# Altium integrated library Transistor.IntLib: 3457 symbols (part 9 of 78)
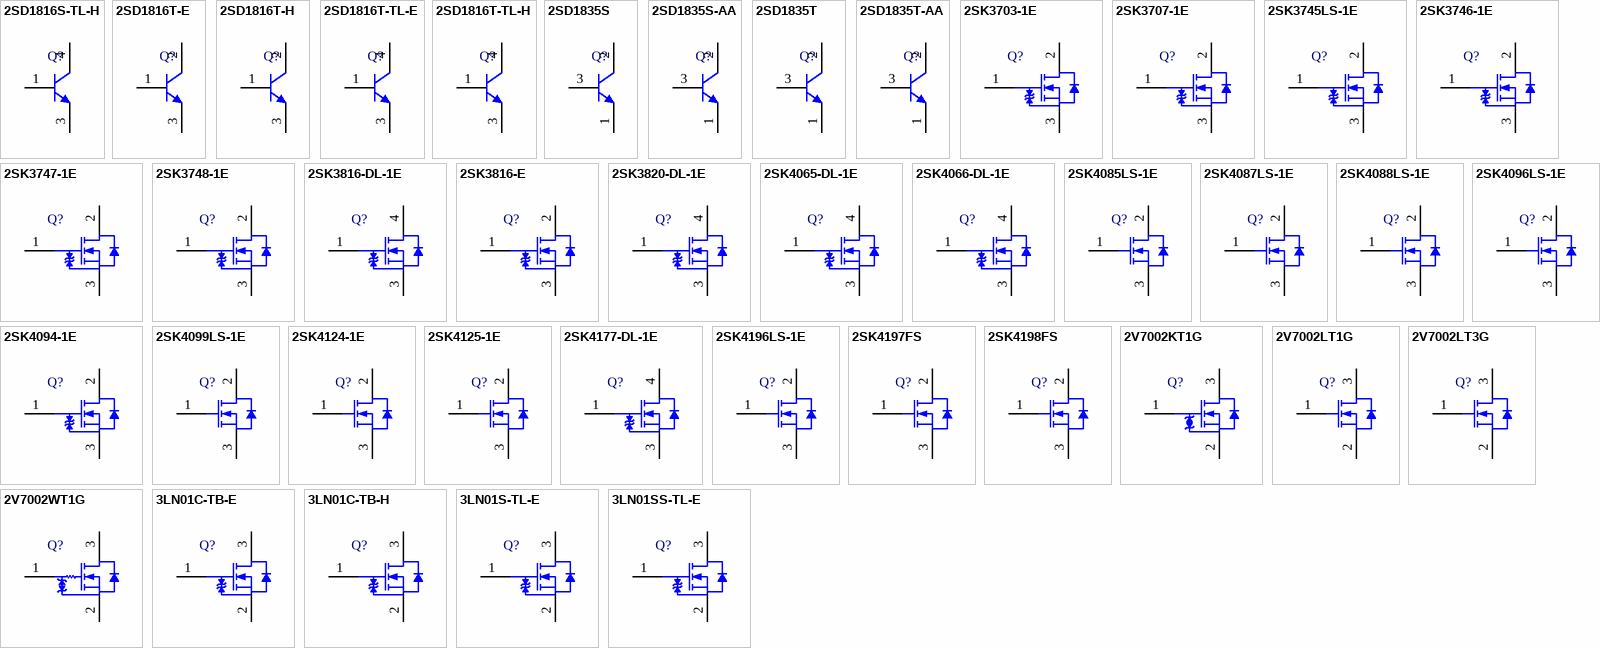
[diagram p102: symbols 2SD1816S-TL-H to 3LN01SS-TL-E]

## 2SK4197FS
designator Q?
N-Channel Power MOSFET, 600 V, 3.5 A, 3.25 Ohm, 3-Pin TO-220, Pb-Free, Tube; Manufacturer: On Semiconductor; PartNumber: 2SK4197FS; Channel Polarity: N Channel; Ciss Typ (pF): 260; Configuration: Single; Coss Typ (pF): 50; Crss Typ (pF): 9.7; V(BR)DSS Min (V): 600; VGS Max (V): 30; VGS(th) Max (V): 5; PackageVersion: Rev. O, 01/2012; PackageReference: TO-220F-3FS-3-221AM; PackageDescription: 3-Pin Flange Mount, Vertical Straight Lead, Body 10.16 x 4.7 mm, Pitch 2.54 mm; Supplier 1: Digi-Key; Supplier Part Number 1: 2SK4197FS-ND; Supplier 2: Mouser; Supplier Part Number 2: 863-2SK4197FS; Package Type: TO-220F-3FS; Packing: Tube; RoHS: Pb-Free; Mounting Technology: Through Hole; ComponentLink1Description: Manufacturer URL; ComponentLink1URL: http://www.onsemi.com/; ComponentLink2Description: Datasheet; ComponentLink2URL: http://www.onsemi.com/pub_link/Collateral/ENA1368-D.PDF; ComponentLink3Description: Package Specification; ComponentLink3URL: http://www.onsemi.com/pub_link/Collateral/221AM.PDF
footprint ONSC-TO-220F-3FS-3-221AM (FM, 3-Leads, Body 10.4x4.9mm, Pitch 2.54mm)
pins: 1 G, 2 D, 3 S

## 2SK4198FS
designator Q?
N-Channel Power MOSFET, 600 V, 5 A, 2.34 Ohm, 3-Pin TO-220, Pb-Free, Tube; Manufacturer: On Semiconductor; PartNumber: 2SK4198FS; Channel Polarity: N Channel; Ciss Typ (pF): 360; Configuration: Single; Coss Typ (pF): 69; Crss Typ (pF): 15; V(BR)DSS Min (V): 600; VGS Max (V): 30; VGS(th) Max (V): 5; PackageVersion: Rev. O, 01/2012; PackageReference: TO-220F-3FS-3-221AM; PackageDescription: 3-Pin Flange Mount, Vertical Straight Lead, Body 10.16 x 4.7 mm, Pitch 2.54 mm; Supplier 1: Digi-Key; Supplier Part Number 1: 2SK4198FS-ND; Supplier 2: Newark; Supplier Part Number 2: 07W7726; Supplier 3: Mouser; Supplier Part Number 3: 863-2SK4198FS; Package Type: TO-220F-3FS; Packing: Tube; RoHS: Pb-Free; Mounting Technology: Through Hole; ComponentLink1Description: Manufacturer URL; ComponentLink1URL: http://www.onsemi.com/; ComponentLink2Description: Datasheet; ComponentLink2URL: http://www.onsemi.com/pub_link/Collateral/ENA1370-D.PDF; ComponentLink3Description: Package Specification; ComponentLink3URL: http://www.onsemi.com/pub_link/Collateral/221AM.PDF
footprint ONSC-TO-220F-3FS-3-221AM (FM, 3-Leads, Body 10.4x4.9mm, Pitch 2.54mm)
pins: 1 G, 2 D, 3 S

## 2V7002KT1G
designator Q?
Small Signal MOSFET, 60 V, 380 mA, Single, N-Channel, 3-Pin SOT-23, Pb-Free, Tape and Reel; Manufacturer: On Semiconductor; PartNumber: 2V7002KT1G; Channel Polarity: N Channel; Ciss Typ (pF): 24.5; Coss Typ (pF): 4.2; Crss Typ (pF): 2.2; ID Max (A): 0.38; V(BR)DSS Min (V): 60; VGS Max (V): 20; VGS(th) Max (V): 2.3; DatasheetVersion: Rev. 11; PackageVersion: Rev. AP, 11/2009; PackageReference: SOT-23-3-318-08; PackageDescription: 3-Pin Small Outline Transistor, Body 2.92 x 1.3 mm, Pitch 0.95 mm; Supplier 1: Digi-Key; Supplier Part Number 1: 2V7002KT1GOSTR-ND; Supplier 2: Digi-Key; Supplier Part Number 2: 2V7002KT1GOSCT-ND; Supplier 3: Digi-Key; Supplier Part Number 3: 2V7002KT1GOSDKR-ND; Supplier 4: Newark; Supplier Part Number 4: 76T8297; Supplier 5: Mouser; Supplier Part Number 5: 863-2V7002KT1G; Configuration: Single; Package Type: SOT-23-3; Packing: Tape and Reel; RoHS: Pb-Free; Mounting Technology: Surface Mount; ComponentLink1Description: Manufacturer URL; ComponentLink1URL: http://www.onsemi.com/; ComponentLink2Description: Datasheet; ComponentLink2URL: http://www.onsemi.com/pub_link/Collateral/2N7002K-D.PDF; ComponentLink3Description: Package Specification; ComponentLink3URL: http://www.onsemi.cn/pub_link/Collateral/318-08.PDF
footprint ONSC-SOT-23-3-318-08_V (SOT23, 3-Leads, Body 2.92x1.3mm, Pitch 0.95mm)
pins: 1 G, 2 S, 3 D

## 2V7002LT1G
designator Q?
Small Signal MOSFET, 60 V, 115 mA, N-Channel, 3-Pin SOT-23, Pb-Free, Tape and Reel; Manufacturer: On Semiconductor; PartNumber: 2V7002LT1G; Channel Polarity: N Channel; Configuration: Single; ID Max (A): 0.115; V(BR)DSS Min (V): 60; VGS Max (V): 20; VGS(th) Max (V): 2.5; DatasheetVersion: Rev. 7; PackageVersion: Rev. AP, 11/2009; PackageReference: SOT-23-3-318-08; PackageDescription: 3-Pin Small Outline Transistor, Body 2.92 x 1.3 mm, Pitch 0.95 mm; Supplier 1: Digi-Key; Supplier Part Number 1: 2V7002LT1GOSTR-ND; Supplier 2: Digi-Key; Supplier Part Number 2: 2V7002LT1GOSCT-ND; Supplier 3: Digi-Key; Supplier Part Number 3: 2V7002LT1GOSDKR-ND; Supplier 4: Newark; Supplier Part Number 4: 76T8298; Supplier 5: Mouser; Supplier Part Number 5: 863-2V7002LT1G; Package Type: SOT-23-3; Packing: Tape and Reel; RoHS: Pb-Free; Mounting Technology: Surface Mount; ComponentLink1Description: Manufacturer URL; ComponentLink1URL: http://www.onsemi.com/; ComponentLink2Description: Datasheet; ComponentLink2URL: http://www.onsemi.com/pub_link/Collateral/2N7002L-D.PDF; ComponentLink3Description: Package Specification; ComponentLink3URL: http://www.onsemi.cn/pub_link/Collateral/318-08.PDF
footprint ONSC-SOT-23-3-318-08_V (SOT23, 3-Leads, Body 2.92x1.3mm, Pitch 0.95mm)
pins: 1 G, 2 S, 3 D

## 2V7002LT3G
designator Q?
Small Signal MOSFET, 60 V, 115 mA, N-Channel, 3-Pin SOT-23, Pb-Free, Tape and Reel; Manufacturer: On Semiconductor; PartNumber: 2V7002LT3G; Channel Polarity: N Channel; Configuration: Single; ID Max (A): 0.115; V(BR)DSS Min (V): 60; VGS Max (V): 20; VGS(th) Max (V): 2.5; DatasheetVersion: Rev. 7; PackageVersion: Rev. AP, 11/2009; PackageReference: SOT-23-3-318-08; PackageDescription: 3-Pin Small Outline Transistor, Body 2.92 x 1.3 mm, Pitch 0.95 mm; Supplier 1: Mouser; Supplier Part Number 1: 863-2V7002LT3G; Package Type: SOT-23-3; Packing: Tape and Reel; RoHS: Pb-Free; Mounting Technology: Surface Mount; ComponentLink1Description: Manufacturer URL; ComponentLink1URL: http://www.onsemi.com/; ComponentLink2Description: Datasheet; ComponentLink2URL: http://www.onsemi.com/pub_link/Collateral/2N7002L-D.PDF; ComponentLink3Description: Package Specification; ComponentLink3URL: http://www.onsemi.cn/pub_link/Collateral/318-08.PDF
footprint ONSC-SOT-23-3-318-08_V (SOT23, 3-Leads, Body 2.92x1.3mm, Pitch 0.95mm)
pins: 1 G, 2 S, 3 D

## 2V7002WT1G
designator Q?
Small Signal MOSFET, 60 V, 340 mA, Single, N-Channel, 3-Pin SC70, Pb-Free, Tape and Reel; Manufacturer: On Semiconductor; PartNumber: 2V7002WT1G; Channel Polarity: N Channel; Ciss Typ (pF): 24.5; Coss Typ (pF): 4.2; Crss Typ (pF): 2.2; ID Max (A): 0.34; V(BR)DSS Min (V): 60; VGS Max (V): 20; VGS(th) Max (V): 2.5; DatasheetVersion: Rev. 5; PackageVersion: Rev. N, 11/2008; PackageReference: SC-70-3-419-04; PackageDescription: 3-Pin Small Outline Transistor, Body 2 x 1.25 mm, Pitch 0.65 mm; Supplier 1: Digi-Key; Supplier Part Number 1: 2V7002WT1G-ND; Supplier 2: Newark; Supplier Part Number 2: 76T8300; Supplier 3: Mouser; Supplier Part Number 3: 863-2V7002WT1G; Configuration: Single; Package Type: SC-70-3 / SOT-323-3; Packing: Tape and Reel; RoHS: Pb-Free; Mounting Technology: Surface Mount; ComponentLink1Description: Manufacturer URL; ComponentLink1URL: http://www.onsemi.com/; ComponentLink2Description: Datasheet; ComponentLink2URL: http://www.onsemi.com/pub_link/Collateral/2N7002W-D.PDF; ComponentLink3Description: Package Specification; ComponentLink3URL: http://www.onsemi.cn/pub_link/Collateral/419-04.PDF
footprint ONSC-SC-70-3-419-04_V (SOT23, 3-Leads, Body 2x1.25mm, Pitch 0.65mm)
pins: 1 G, 2 S, 3 D

## 3LN01C-TB-E
designator Q?
N-Channel Small Signal MOSFET, 30 V, 0.15 A, 3.7 Ohm, 3-Pin CP, Pb-Free, Tape and Reel; Manufacturer: On Semiconductor; PartNumber: 3LN01C-TB-E; Channel Polarity: N Channel; Ciss Typ (pF): 7; Configuration: Single; Coss Typ (pF): 5.9; Crss Typ (pF): 2.3; ID Max (A): 0.15; PD Max (W): 0.25; V(BR)DSS Min (V): 30; VGS Max (V): 10; VGS(th) Max (V): 1.3; PackageReference: CP-3-318AN_A; PackageDescription: 3-Pin Small Outline Transistor, Body 2.9 x 1.5 mm, Pitch 0.95 mm; Supplier 1: Mouser; Supplier Part Number 1: 863-3LN01C-TB-E; Package Type: SC-59 / CP; Packing: Tape and Reel; RoHS: Pb-Free; Mounting Technology: Surface Mount; ComponentLink1Description: Manufacturer URL; ComponentLink1URL: http://www.onsemi.com/; ComponentLink2Description: Datasheet; ComponentLink2URL: http://www.onsemi.com/pub_link/Collateral/3LN01C-D.PDF; ComponentLink3Description: Package Specification; ComponentLink3URL: http://www.onsemi.com/pub_link/Collateral/EN6619-D.PDF
footprint ONSC-CP-3-318AN_A_V (SOT23, 3-Leads, Body 2.9x1.5mm, Pitch 0.95mm)
pins: 1 G, 2 S, 3 D

## 3LN01C-TB-H
designator Q?
N-Channel Small Signal MOSFET, 30 V, 0.15 A, 3.7 Ohm, 3-Pin CP, Pb-Free, Tape and Reel; Manufacturer: On Semiconductor; PartNumber: 3LN01C-TB-H; Channel Polarity: N Channel; Ciss Typ (pF): 7; Configuration: Single; Coss Typ (pF): 5.9; Crss Typ (pF): 2.3; ID Max (A): 0.15; PD Max (W): 0.25; V(BR)DSS Min (V): 30; VGS Max (V): 10; VGS(th) Max (V): 1.3; PackageReference: CP-3-318AN_A; PackageDescription: 3-Pin Small Outline Transistor, Body 2.9 x 1.5 mm, Pitch 0.95 mm; Supplier 1: Digi-Key; Supplier Part Number 1: 3LN01C-TB-H-ND; Supplier 2: Mouser; Supplier Part Number 2: 863-3LN01C-TB-H; Package Type: SC-59 / CP; Packing: Tape and Reel; RoHS: Pb-Free; Mounting Technology: Surface Mount; ComponentLink1Description: Manufacturer URL; ComponentLink1URL: http://www.onsemi.com/; ComponentLink2Description: Datasheet; ComponentLink2URL: http://www.onsemi.com/pub_link/Collateral/3LN01C-D.PDF; ComponentLink3Description: Package Specification; ComponentLink3URL: http://www.onsemi.com/pub_link/Collateral/EN6619-D.PDF
footprint ONSC-CP-3-318AN_A_V (SOT23, 3-Leads, Body 2.9x1.5mm, Pitch 0.95mm)
pins: 1 G, 2 S, 3 D

## 3LN01S-TL-E
designator Q?
N-Channel Small Signal MOSFET, 30 V, 0.15 A, 3.7 Ohm, 3-Pin SMCP, Pb-Free, Tape and Reel; Manufacturer: On Semiconductor; PartNumber: 3LN01S-TL-E; Channel Polarity: N Channel; Ciss Typ (pF): 7; Configuration: Single; Coss Typ (pF): 5.9; Crss Typ (pF): 2.3; ID Max (A): 0.15; V(BR)DSS Min (V): 30; VGS Max (V): 10; VGS(th) Max (V): 1.3; PackageReference: SMCP-3; PackageDescription: 3-Pin Small Outline Transistor, Body 1.6 x 0.8 mm, Pitch 0.5 mm; Supplier 1: Digi-Key; Supplier Part Number 1: 3LN01S-TL-E-ND; Supplier 2: Mouser; Supplier Part Number 2: 863-3LN01S-TL-E; Package Type: SC-75 / SMCP; Packing: Tape and Reel; PD Max (W): 0.15; RoHS: Pb-Free; Mounting Technology: Surface Mount; ComponentLink1Description: Manufacturer URL; ComponentLink1URL: http://www.onsemi.com/; ComponentLink2Description: Datasheet; ComponentLink2URL: http://www.onsemi.com/pub_link/Collateral/3LN01S-D.PDF; ComponentLink3Description: Package Specification; ComponentLink3URL: http://www.onsemi.com/pub_link/Collateral/3LN01S-D.PDF
footprint ONSC-SMCP-3_V (SOT23, 3-Leads, Body 1.6x0.8mm, Pitch 0.5mm)
pins: 1 G, 2 S, 3 D

## 3LN01SS-TL-E
designator Q?
N-Channel Small Signal MOSFET, 30 V, 0.15 A, 3.7 Ohm, 3-Pin SSFP, Pb-Free, Tape and Reel; Manufacturer: On Semiconductor; PartNumber: 3LN01SS-TL-E; Channel Polarity: N Channel; Ciss Typ (pF): 7; Configuration: Single; Coss Typ (pF): 5.9; Crss Typ (pF): 2.3; ID Max (A): 0.15; V(BR)DSS Min (V): 30; VGS Max (V): 10; VGS(th) Max (V): 1.3; PackageReference: SSFP-3; PackageDescription: 3-Pin Small Outline Transistor, Body 1.4 x 0.8 mm, Pitch 0.45 mm; Supplier 1: Mouser; Supplier Part Number 1: 863-3LN01SS-TL-E; Package Type: SOT-623 / SSFP; Packing: Tape and Reel; PD Max (W): 0.15; RoHS: Pb-Free; Mounting Technology: Surface Mount; ComponentLink1Description: Manufacturer URL; ComponentLink1URL: http://www.onsemi.com/; ComponentLink2Description: Datasheet; ComponentLink2URL: http://www.onsemi.com/pub_link/Collateral/EN6546-D.PDF; ComponentLink3Description: Package Specification; ComponentLink3URL: http://www.onsemi.com/pub_link/Collateral/55GN01FA.PDF
footprint ONSC-SSFP-3_V (SOT23, 3-Leads, Body 1.4x0.8mm, Pitch 0.45mm)
pins: 1 G, 2 S, 3 D

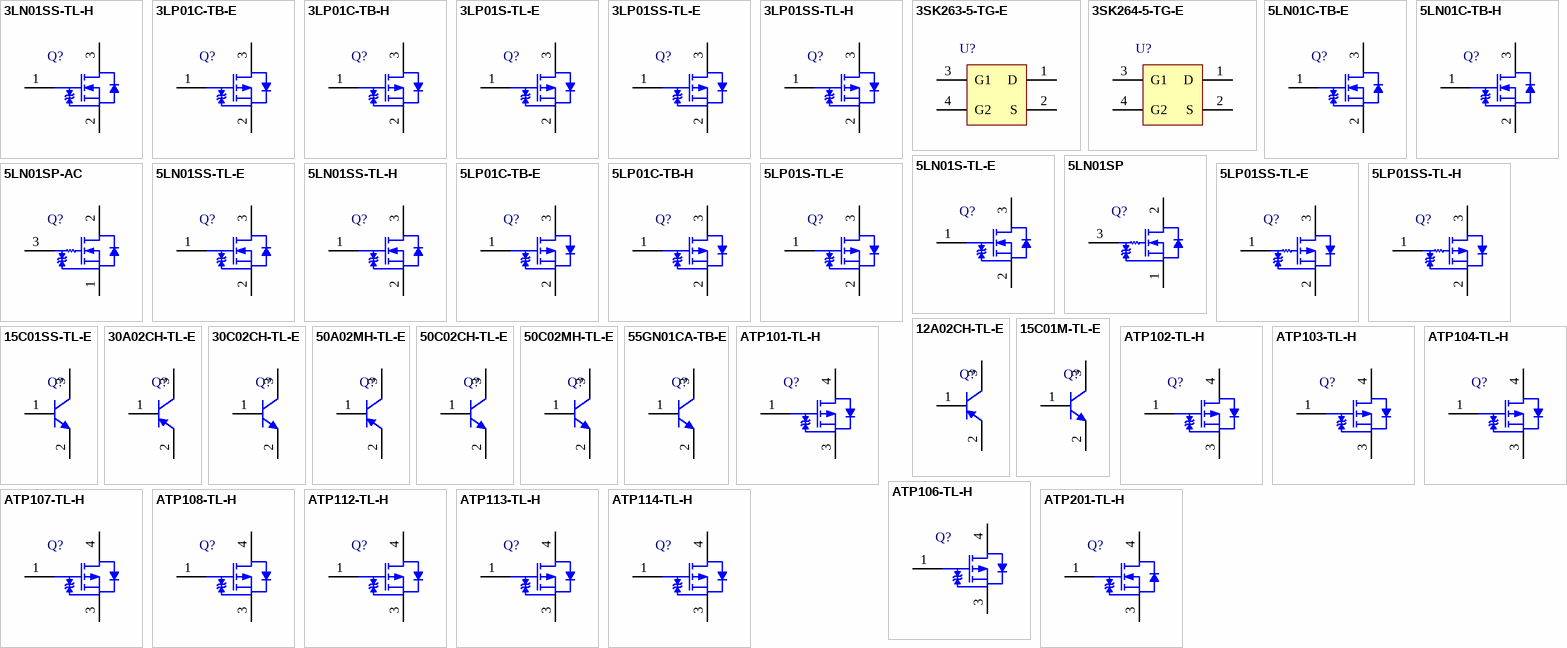
[diagram p10: symbols 3LN01SS-TL-H to ATP201-TL-H]

## 3LN01SS-TL-H
designator Q?
N-Channel Small Signal MOSFET, 30 V, 0.15 A, 3.7 Ohm, 3-Pin SSFP, Pb-Free, Tape and Reel; Manufacturer: On Semiconductor; PartNumber: 3LN01SS-TL-H; Channel Polarity: N Channel; Ciss Typ (pF): 7; Configuration: Single; Coss Typ (pF): 5.9; Crss Typ (pF): 2.3; ID Max (A): 0.15; V(BR)DSS Min (V): 30; VGS Max (V): 10; VGS(th) Max (V): 1.3; PackageReference: SSFP-3; PackageDescription: 3-Pin Small Outline Transistor, Body 1.4 x 0.8 mm, Pitch 0.45 mm; Supplier 1: Digi-Key; Supplier Part Number 1: 3LN01SS-TL-H-ND; Supplier 2: Mouser; Supplier Part Number 2: 863-3LN01SS-TL-H; Package Type: SOT-623 / SSFP; Packing: Tape and Reel; PD Max (W): 0.15; RoHS: Pb-Free; Mounting Technology: Surface Mount; ComponentLink1Description: Manufacturer URL; ComponentLink1URL: http://www.onsemi.com/; ComponentLink2Description: Datasheet; ComponentLink2URL: http://www.onsemi.com/pub_link/Collateral/EN6546-D.PDF; ComponentLink3Description: Package Specification; ComponentLink3URL: http://www.onsemi.com/pub_link/Collateral/55GN01FA.PDF
footprint ONSC-SSFP-3_V (SOT23, 3-Leads, Body 1.4x0.8mm, Pitch 0.45mm)
pins: 1 G, 2 S, 3 D

## 3LP01C-TB-E
designator Q?
P-Channel Small Signal MOSFET, -30 V, -0.1 A, 10.4 Ohm, 3-Pin CP, Pb-Free, Tape and Reel; Manufacturer: On Semiconductor; PartNumber: 3LP01C-TB-E; Channel Polarity: P Channel; Ciss Typ (pF): 7.5; Configuration: Single; Coss Typ (pF): 5.7; Crss Typ (pF): 1.8; ID Max (A): 0.1; PD Max (W): 0.25; V(BR)DSS Min (V): 30; VGS Max (V): 10; VGS(th) Max (V): 1.4; PackageReference: CP-3-318AN_A; PackageDescription: 3-Pin Small Outline Transistor, Body 2.9 x 1.5 mm, Pitch 0.95 mm; Supplier 1: Newark; Supplier Part Number 1: 45W5075; Supplier 2: Mouser; Supplier Part Number 2: 863-3LP01C-TB-E; Package Type: SC-59 / CP; Packing: Tape and Reel; RoHS: Pb-Free; Mounting Technology: Surface Mount; ComponentLink1Description: Manufacturer URL; ComponentLink1URL: http://www.onsemi.com/; ComponentLink2Description: Datasheet; ComponentLink2URL: http://www.onsemi.com/pub_link/Collateral/3LP01C-D.PDF; ComponentLink3Description: Package Specification; ComponentLink3URL: http://www.onsemi.com/pub_link/Collateral/EN6619-D.PDF
footprint ONSC-CP-3-318AN_A_V (SOT23, 3-Leads, Body 2.9x1.5mm, Pitch 0.95mm)
pins: 1 G, 2 S, 3 D

## 3LP01C-TB-H
designator Q?
P-Channel Small Signal MOSFET, -30 V, -0.1 A, 10.4 Ohm, 3-Pin CP, Pb-Free, Tape and Reel; Manufacturer: On Semiconductor; PartNumber: 3LP01C-TB-H; Channel Polarity: P Channel; Ciss Typ (pF): 7.5; Configuration: Single; Coss Typ (pF): 5.7; Crss Typ (pF): 1.8; ID Max (A): 0.1; PD Max (W): 0.25; V(BR)DSS Min (V): 30; VGS Max (V): 10; VGS(th) Max (V): 1.4; PackageReference: CP-3-318AN_A; PackageDescription: 3-Pin Small Outline Transistor, Body 2.9 x 1.5 mm, Pitch 0.95 mm; Supplier 1: Digi-Key; Supplier Part Number 1: 3LP01C-TB-H-ND; Supplier 2: Mouser; Supplier Part Number 2: 863-3LP01C-TB-H; Package Type: SC-59 / CP; Packing: Tape and Reel; RoHS: Pb-Free; Mounting Technology: Surface Mount; ComponentLink1Description: Manufacturer URL; ComponentLink1URL: http://www.onsemi.com/; ComponentLink2Description: Datasheet; ComponentLink2URL: http://www.onsemi.com/pub_link/Collateral/3LP01C-D.PDF; ComponentLink3Description: Package Specification; ComponentLink3URL: http://www.onsemi.com/pub_link/Collateral/EN6619-D.PDF
footprint ONSC-CP-3-318AN_A_V (SOT23, 3-Leads, Body 2.9x1.5mm, Pitch 0.95mm)
pins: 1 G, 2 S, 3 D

## 3LP01S-TL-E
designator Q?
P-Channel Small Signal MOSFET, -30 V, -0.1 A, 10.4 Ohm, 3-Pin SMCP, Pb-Free, Tape and Reel; Manufacturer: On Semiconductor; PartNumber: 3LP01S-TL-E; Channel Polarity: P Channel; Ciss Typ (pF): 7.5; Configuration: Single; Coss Typ (pF): 5.7; Crss Typ (pF): 1.8; ID Max (A): 0.1; PD Max (W): 0.15; V(BR)DSS Min (V): 30; VGS Max (V): 10; VGS(th) Max (V): 1.4; PackageReference: SMCP-3; PackageDescription: 3-Pin Small Outline Transistor, Body 1.6 x 0.8 mm, Pitch 0.5 mm; Supplier 1: Digi-Key; Supplier Part Number 1: 3LP01S-TL-E-ND; Supplier 2: Mouser; Supplier Part Number 2: 863-3LP01S-TL-E; Package Type: SC-75 / SMCP; Packing: Tape and Reel; RoHS: Pb-Free; Mounting Technology: Surface Mount; ComponentLink1Description: Manufacturer URL; ComponentLink1URL: http://www.onsemi.com/; ComponentLink2Description: Datasheet; ComponentLink2URL: http://www.onsemi.com/pub_link/Collateral/3LP01S-D.PDF; ComponentLink3Description: Package Specification; ComponentLink3URL: http://www.onsemi.com/pub_link/Collateral/3LN01S-D.PDF
footprint ONSC-SMCP-3_V (SOT23, 3-Leads, Body 1.6x0.8mm, Pitch 0.5mm)
pins: 1 G, 2 S, 3 D

## 3LP01SS-TL-E
designator Q?
P-Channel Small Signal MOSFET, -30 V, -0.1 A, 10.4 Ohm, 3-Pin SSFP, Pb-Free, Tape and Reel; Manufacturer: On Semiconductor; PartNumber: 3LP01SS-TL-E; Channel Polarity: P Channel; Ciss Typ (pF): 7.5; Configuration: Single; Coss Typ (pF): 5.7; Crss Typ (pF): 1.8; ID Max (A): 0.1; PD Max (W): 0.15; V(BR)DSS Min (V): 30; VGS Max (V): 10; VGS(th) Max (V): 1.4; PackageReference: SSFP-3; PackageDescription: 3-Pin Small Outline Transistor, Body 1.4 x 0.8 mm, Pitch 0.45 mm; Supplier 1: Mouser; Supplier Part Number 1: 863-3LP01SS-TL-E; Package Type: SOT-623 / SSFP; Packing: Tape and Reel; RoHS: Pb-Free; Mounting Technology: Surface Mount; ComponentLink1Description: Manufacturer URL; ComponentLink1URL: http://www.onsemi.com/; ComponentLink2Description: Datasheet; ComponentLink2URL: http://www.onsemi.com/pub_link/Collateral/EN6648-D.PDF; ComponentLink3Description: Package Specification; ComponentLink3URL: http://www.onsemi.com/pub_link/Collateral/55GN01FA.PDF
footprint ONSC-SSFP-3_V (SOT23, 3-Leads, Body 1.4x0.8mm, Pitch 0.45mm)
pins: 1 G, 2 S, 3 D

## 3LP01SS-TL-H
designator Q?
P-Channel Small Signal MOSFET, -30 V, -0.1 A, 10.4 Ohm, 3-Pin SSFP, Pb-Free, Tape and Reel; Manufacturer: On Semiconductor; PartNumber: 3LP01SS-TL-H; Channel Polarity: P Channel; Ciss Typ (pF): 7.5; Configuration: Single; Coss Typ (pF): 5.7; Crss Typ (pF): 1.8; ID Max (A): 0.1; PD Max (W): 0.15; V(BR)DSS Min (V): 30; VGS Max (V): 10; VGS(th) Max (V): 1.4; PackageReference: SSFP-3; PackageDescription: 3-Pin Small Outline Transistor, Body 1.4 x 0.8 mm, Pitch 0.45 mm; Supplier 1: Digi-Key; Supplier Part Number 1: 3LP01SS-TL-H-ND; Supplier 2: Newark; Supplier Part Number 2: 52T9526; Supplier 3: Mouser; Supplier Part Number 3: 863-3LP01SS-TL-H; Package Type: SOT-623 / SSFP; Packing: Tape and Reel; RoHS: Pb-Free; Mounting Technology: Surface Mount; ComponentLink1Description: Manufacturer URL; ComponentLink1URL: http://www.onsemi.com/; ComponentLink2Description: Datasheet; ComponentLink2URL: http://www.onsemi.com/pub_link/Collateral/EN6648-D.PDF; ComponentLink3Description: Package Specification; ComponentLink3URL: http://www.onsemi.com/pub_link/Collateral/55GN01FA.PDF
footprint ONSC-SSFP-3_V (SOT23, 3-Leads, Body 1.4x0.8mm, Pitch 0.45mm)
pins: 1 G, 2 S, 3 D

## 3SK263-5-TG-E
designator U?
N-Channel Dual Gate MOSFET, 15 V, 30 mA, 4-Pin CP, Pb-Free, Tape and Reel; Manufacturer: On Semiconductor; PartNumber: 3SK263-5-TG-E; Channel Polarity: N Channel; Ciss Typ (pF): 2.7; Crss Typ (pF): 0.015; ID Max (A): 0.03; PD Max (W): 0.2; V(BR)DSS Min (V): 15; VGS Max (V): 8; PackageVersion: Rev. O, 11/2011; PackageReference: CP-4-318BE; PackageDescription: 4-Pin Small Outline Transistor, Body 2.9 x 1.5 mm; Supplier 1: Digi-Key; Supplier Part Number 1: 869-1115-2-ND; Supplier 2: Digi-Key; Supplier Part Number 2: 869-1115-1-ND; Supplier 3: Digi-Key; Supplier Part Number 3: 869-1115-6-ND; Supplier 4: Newark; Supplier Part Number 4: 60W2043; Supplier 5: Mouser; Supplier Part Number 5: 863-3SK263-5-TG-E; Configuration: Dual; Package Type: CP-4; Packing: Tape and Reel; RoHS: Pb-Free; Mounting Technology: Surface Mount; ComponentLink1Description: Manufacturer URL; ComponentLink1URL: http://www.onsemi.com/; ComponentLink2Description: Datasheet; ComponentLink2URL: http://www.onsemi.com/pub_link/Collateral/EN4423-D.PDF; ComponentLink3Description: Package Specification; ComponentLink3URL: http://www.onsemi.com/pub_link/Collateral/318BE.PDF
footprint ONSC-CP-4-318BE_N (SOT143, 4-Leads, Body 3.05x1.65mm, Pitch 1.9mm, IPC Medium Density)
footprint ONSC-CP-4-318BE_L (SOT143, 4-Leads, Body 3.05x1.65mm, Pitch 1.9mm, IPC High Density)
footprint ONSC-CP-4-318BE_M (SOT143, 4-Leads, Body 3.05x1.65mm, Pitch 1.9mm, IPC Low Density)
pins: 1 D, 2 S, 3 G1, 4 G2

## 3SK264-5-TG-E
designator U?
N-Channel Dual Gate MOSFET, 15 V, 30 mA, 4-Pin CP, Pb-Free, Tape and Reel; Manufacturer: On Semiconductor; PartNumber: 3SK264-5-TG-E; Channel Polarity: N Channel; Ciss Typ (pF): 2.5; Crss Typ (pF): 0.015; ID Max (A): 0.03; PD Max (W): 0.2; V(BR)DSS Min (V): 15; VGS Max (V): 8; PackageReference: CP-4; PackageDescription: 4-Pin Small Outline Transistor, Body 2.9 x 1.5 mm; Supplier 1: Newark; Supplier Part Number 1: 60W2044; Supplier 2: Mouser; Supplier Part Number 2: 863-3SK264-5-TG-E; Configuration: Dual; Packing: Tape and Reel; RoHS: Pb-Free; Mounting Technology: Surface Mount; ComponentLink1Description: Manufacturer URL; ComponentLink1URL: http://www.onsemi.com/; ComponentLink2Description: Datasheet; ComponentLink2URL: http://www.onsemi.com/pub_link/Collateral/EN4901-D.PDF; ComponentLink3Description: Package Specification; ComponentLink3URL: http://www.onsemi.com/pub_link/Collateral/EN4423-D.PDF
footprint ONSC-CP-4_V (SOT, 4-Leads, Body 3.05x1.65mm)
pins: 1 D, 2 S, 3 G1, 4 G2

## 5LN01C-TB-E
designator Q?
N-Channel Small Signal MOSFET, 50 V, 0.1 A, 7.8 Ohm, 3-Pin CP, Pb-Free, Tape and Reel; Manufacturer: On Semiconductor; PartNumber: 5LN01C-TB-E; Channel Polarity: N Channel; Ciss Typ (pF): 6.6; Configuration: Single; Coss Typ (pF): 4.7; Crss Typ (pF): 1.7; ID Max (A): 0.1; PD Max (W): 0.25; V(BR)DSS Min (V): 50; VGS Max (V): 10; VGS(th) Max (V): 1.3; PackageReference: CP-3-318AN_A; PackageDescription: 3-Pin Small Outline Transistor, Body 2.9 x 1.5 mm, Pitch 0.95 mm; Supplier 1: Digi-Key; Supplier Part Number 1: 5LN01C-TB-E-ND; Supplier 2: Mouser; Supplier Part Number 2: 863-5LN01C-TB-E; Package Type: SC-59 / CP; Packing: Tape and Reel; RoHS: Pb-Free; Mounting Technology: Surface Mount; ComponentLink1Description: Manufacturer URL; ComponentLink1URL: http://www.onsemi.com/; ComponentLink2Description: Datasheet; ComponentLink2URL: http://www.onsemi.com/pub_link/Collateral/EN6555A-D.PDF; ComponentLink3Description: Package Specification; ComponentLink3URL: http://www.onsemi.com/pub_link/Collateral/EN6619-D.PDF
footprint ONSC-CP-3-318AN_A_V (SOT23, 3-Leads, Body 2.9x1.5mm, Pitch 0.95mm)
pins: 1 G, 2 S, 3 D

## 5LN01C-TB-H
designator Q?
N-Channel Small Signal MOSFET, 50 V, 0.1 A, 7.8 Ohm, 3-Pin CP, Pb-Free, Tape and Reel; Manufacturer: On Semiconductor; PartNumber: 5LN01C-TB-H; Channel Polarity: N Channel; Ciss Typ (pF): 6.6; Configuration: Single; Coss Typ (pF): 4.7; Crss Typ (pF): 1.7; ID Max (A): 0.1; PD Max (W): 0.25; V(BR)DSS Min (V): 50; VGS Max (V): 10; VGS(th) Max (V): 1.3; PackageReference: CP-3-318AN_A; PackageDescription: 3-Pin Small Outline Transistor, Body 2.9 x 1.5 mm, Pitch 0.95 mm; Supplier 1: Digi-Key; Supplier Part Number 1: 5LN01C-TB-H-ND; Supplier 2: Mouser; Supplier Part Number 2: 863-5LN01C-TB-H; Package Type: SC-59 / CP; Packing: Tape and Reel; RoHS: Pb-Free; Mounting Technology: Surface Mount; ComponentLink1Description: Manufacturer URL; ComponentLink1URL: http://www.onsemi.com/; ComponentLink2Description: Datasheet; ComponentLink2URL: http://www.onsemi.com/pub_link/Collateral/EN6555A-D.PDF; ComponentLink3Description: Package Specification; ComponentLink3URL: http://www.onsemi.com/pub_link/Collateral/EN6619-D.PDF
footprint ONSC-CP-3-318AN_A_V (SOT23, 3-Leads, Body 2.9x1.5mm, Pitch 0.95mm)
pins: 1 G, 2 S, 3 D

## 5LN01S-TL-E
designator Q?
N-Channel Small Signal MOSFET, 50 V, 0.1 A, 7.8 Ohm, 3-Pin SMCP, Pb-Free, Tape and Reel; Manufacturer: On Semiconductor; PartNumber: 5LN01S-TL-E; Channel Polarity: N Channel; Ciss Typ (pF): 6.6; Configuration: Single; Coss Typ (pF): 4.7; Crss Typ (pF): 1.7; ID Max (A): 0.1; PD Max (W): 0.15; V(BR)DSS Min (V): 50; VGS Max (V): 10; VGS(th) Max (V): 1.3; PackageReference: SMCP-3; PackageDescription: 3-Pin Small Outline Transistor, Body 1.6 x 0.8 mm, Pitch 0.5 mm; Supplier 1: Digi-Key; Supplier Part Number 1: 5LN01S-TL-E-ND; Supplier 2: Mouser; Supplier Part Number 2: 863-5LN01S-TL-E; Package Type: SC-75 / SMCP; Packing: Tape and Reel; RoHS: Pb-Free; Mounting Technology: Surface Mount; ComponentLink1Description: Manufacturer URL; ComponentLink1URL: http://www.onsemi.com/; ComponentLink2Description: Datasheet; ComponentLink2URL: http://www.onsemi.com/pub_link/Collateral/EN6561-D.PDF; ComponentLink3Description: Package Specification; ComponentLink3URL: http://www.onsemi.com/pub_link/Collateral/3LN01S-D.PDF
footprint ONSC-SMCP-3_V (SOT23, 3-Leads, Body 1.6x0.8mm, Pitch 0.5mm)
pins: 1 G, 2 S, 3 D

## 5LN01SP
designator Q?
N-Channel Small Signal MOSFET, 50 V, 0.1 A, 7.8 Ohm, 3-Pin SPA, Pb-Free, Bulk Bag; Manufacturer: On Semiconductor; PartNumber: 5LN01SP; Channel Polarity: N Channel; Ciss Typ (pF): 6.6; Configuration: Single; Coss Typ (pF): 4.7; Crss Typ (pF): 1.7; ID Max (A): 0.1; PD Max (W): 0.25; V(BR)DSS Min (V): 50; VGS Max (V): 10; VGS(th) Max (V): 1.3; PackageVersion: Rev. O, 02/2012; PackageReference: SPA-3-135AC; PackageDescription: 3-Pin Transistor Outline, Body 4 x 2.2 mm, Pitch 1.3 mm; Supplier 1: Newark; Supplier Part Number 1: 60W2045; Supplier 2: Mouser; Supplier Part Number 2: 863-5LN01SP; Package Type: TO-92 / SPA; Packing: Bulk Bag; RoHS: Pb-Free; Mounting Technology: Through Hole; ComponentLink1Description: Manufacturer URL; ComponentLink1URL: http://www.onsemi.com/; ComponentLink2Description: Datasheet; ComponentLink2URL: http://www.onsemi.com/pub_link/Collateral/EN6559-D.PDF; ComponentLink3Description: Package Specification; ComponentLink3URL: http://www.onsemi.com/pub_link/Collateral/135AC.PDF
footprint ONSC-SPA-3-135AC_V (FM, 3-Leads, Body 4x2.2mm, Pitch 1.3mm)
pins: 1 S, 2 D, 3 G

## 5LN01SP-AC
designator Q?
N-Channel Small Signal MOSFET, 50 V, 0.1 A, 7.8 Ohm, 3-Pin SPA, Pb-Free, Bulk Box; Manufacturer: On Semiconductor; PartNumber: 5LN01SP-AC; Channel Polarity: N Channel; Ciss Typ (pF): 6.6; Configuration: Single; Coss Typ (pF): 4.7; Crss Typ (pF): 1.7; ID Max (A): 0.1; PD Max (W): 0.25; V(BR)DSS Min (V): 50; VGS Max (V): 10; VGS(th) Max (V): 1.3; PackageVersion: Rev. O, 04/2012; PackageReference: SPA-3-135AK; PackageDescription: 3-Pin Transistor Outline, Body 4 x 2.2 mm, Pitch 2.5 mm; Supplier 1: Digi-Key; Supplier Part Number 1: 5LN01SP-AC-ND; Supplier 2: Mouser; Supplier Part Number 2: 863-5LN01SP-AC; Package Type: TO-92 / SPA; Packing: Bulk Box; RoHS: Pb-Free; Mounting Technology: Through Hole; ComponentLink1Description: Manufacturer URL; ComponentLink1URL: http://www.onsemi.com/; ComponentLink2Description: Datasheet; ComponentLink2URL: http://www.onsemi.com/pub_link/Collateral/EN6559-D.PDF; ComponentLink3Description: Package Specification; ComponentLink3URL: http://www.onsemi.com/pub_link/Collateral/135AK.PDF
footprint ONSC-SPA-3-135AK_V (SPA, 3-Leads, Body 4x2.2mm, Pitch 2.5mm)
pins: 1 S, 2 D, 3 G

## 5LN01SS-TL-E
designator Q?
N-Channel Small Signal MOSFET, 50 V, 0.1 A, 7.8 Ohm, 3-Pin SSFP, Pb-Free, Tape and Reel; Manufacturer: On Semiconductor; PartNumber: 5LN01SS-TL-E; Channel Polarity: N Channel; Ciss Typ (pF): 6.6; Configuration: Single; Coss Typ (pF): 4.7; Crss Typ (pF): 1.7; ID Max (A): 0.1; PD Max (W): 0.15; V(BR)DSS Min (V): 50; VGS Max (V): 10; VGS(th) Max (V): 1.3; PackageReference: SSFP-3; PackageDescription: 3-Pin Small Outline Transistor, Body 1.4 x 0.8 mm, Pitch 0.45 mm; Supplier 1: Digi-Key; Supplier Part Number 1: 5LN01SS-TL-E-ND; Supplier 2: Mouser; Supplier Part Number 2: 863-5LN01SS-TL-E; Package Type: SOT-623 / SSFP; Packing: Tape and Reel; RoHS: Pb-Free; Mounting Technology: Surface Mount; ComponentLink1Description: Manufacturer URL; ComponentLink1URL: http://www.onsemi.com/; ComponentLink2Description: Datasheet; ComponentLink2URL: http://www.onsemi.com/pub_link/Collateral/5LN01SS-D.PDF; ComponentLink3Description: Package Specification; ComponentLink3URL: http://www.onsemi.com/pub_link/Collateral/55GN01FA.PDF
footprint ONSC-SSFP-3_V (SOT23, 3-Leads, Body 1.4x0.8mm, Pitch 0.45mm)
pins: 1 G, 2 S, 3 D

## 5LN01SS-TL-H
designator Q?
N-Channel Small Signal MOSFET, 50 V, 0.1 A, 7.8 Ohm, 3-Pin SSFP, Pb-Free, Tape and Reel; Manufacturer: On Semiconductor; PartNumber: 5LN01SS-TL-H; Channel Polarity: N Channel; Ciss Typ (pF): 6.6; Configuration: Single; Coss Typ (pF): 4.7; Crss Typ (pF): 1.7; ID Max (A): 0.1; PD Max (W): 0.15; V(BR)DSS Min (V): 50; VGS Max (V): 10; VGS(th) Max (V): 1.3; PackageReference: SSFP-3; PackageDescription: 3-Pin Small Outline Transistor, Body 1.4 x 0.8 mm, Pitch 0.45 mm; Supplier 1: Digi-Key; Supplier Part Number 1: 5LN01SS-TL-H-ND; Supplier 2: Mouser; Supplier Part Number 2: 863-5LN01SS-TL-H; Package Type: SOT-623 / SSFP; Packing: Tape and Reel; RoHS: Pb-Free; Mounting Technology: Surface Mount; ComponentLink1Description: Manufacturer URL; ComponentLink1URL: http://www.onsemi.com/; ComponentLink2Description: Datasheet; ComponentLink2URL: http://www.onsemi.com/pub_link/Collateral/5LN01SS-D.PDF; ComponentLink3Description: Package Specification; ComponentLink3URL: http://www.onsemi.com/pub_link/Collateral/55GN01FA.PDF
footprint ONSC-SSFP-3_V (SOT23, 3-Leads, Body 1.4x0.8mm, Pitch 0.45mm)
pins: 1 G, 2 S, 3 D

## 5LP01C-TB-E
designator Q?
P-Channel Small Signal MOSFET, -50 V, -0.07 A, 23 Ohm, 3-Pin CP, Pb-Free, Tape and Reel; Manufacturer: On Semiconductor; PartNumber: 5LP01C-TB-E; Channel Polarity: P Channel; Ciss Typ (pF): 7.4; Configuration: Single; Coss Typ (pF): 4.2; Crss Typ (pF): 1.3; ID Max (A): 0.07; PD Max (W): 0.25; V(BR)DSS Min (V): 50; VGS Max (V): 10; VGS(th) Max (V): 1.4; PackageReference: CP-3-318AN_A; PackageDescription: 3-Pin Small Outline Transistor, Body 2.9 x 1.5 mm, Pitch 0.95 mm; Supplier 1: Digi-Key; Supplier Part Number 1: 5LP01C-TB-E-ND; Supplier 2: Mouser; Supplier Part Number 2: 863-5LP01C-TB-E; Package Type: SC-59 / CP; Packing: Tape and Reel; RoHS: Pb-Free; Mounting Technology: Surface Mount; ComponentLink1Description: Manufacturer URL; ComponentLink1URL: http://www.onsemi.com/; ComponentLink2Description: Datasheet; ComponentLink2URL: http://www.onsemi.com/pub_link/Collateral/EN6619-D.PDF; ComponentLink3Description: Package Specification; ComponentLink3URL: http://www.onsemi.com/pub_link/Collateral/EN6619-D.PDF
footprint ONSC-CP-3-318AN_A_V (SOT23, 3-Leads, Body 2.9x1.5mm, Pitch 0.95mm)
pins: 1 G, 2 S, 3 D

## 5LP01C-TB-H
designator Q?
P-Channel Small Signal MOSFET, -50 V, -0.07 A, 23 Ohm, 3-Pin CP, Pb-Free, Tape and Reel; Manufacturer: On Semiconductor; PartNumber: 5LP01C-TB-H; Channel Polarity: P Channel; Ciss Typ (pF): 7.4; Configuration: Single; Coss Typ (pF): 4.2; Crss Typ (pF): 1.3; ID Max (A): 0.07; PD Max (W): 0.25; V(BR)DSS Min (V): 50; VGS Max (V): 10; VGS(th) Max (V): 1.4; PackageReference: CP-3-318AN_A; PackageDescription: 3-Pin Small Outline Transistor, Body 2.9 x 1.5 mm, Pitch 0.95 mm; Supplier 1: Digi-Key; Supplier Part Number 1: 5LP01C-TB-H-ND; Supplier 2: Mouser; Supplier Part Number 2: 863-5LP01C-TB-H; Package Type: SC-59 / CP; Packing: Tape and Reel; RoHS: Pb-Free; Mounting Technology: Surface Mount; ComponentLink1Description: Manufacturer URL; ComponentLink1URL: http://www.onsemi.com/; ComponentLink2Description: Datasheet; ComponentLink2URL: http://www.onsemi.com/pub_link/Collateral/EN6619-D.PDF; ComponentLink3Description: Package Specification; ComponentLink3URL: http://www.onsemi.com/pub_link/Collateral/EN6619-D.PDF
footprint ONSC-CP-3-318AN_A_V (SOT23, 3-Leads, Body 2.9x1.5mm, Pitch 0.95mm)
pins: 1 G, 2 S, 3 D

## 5LP01S-TL-E
designator Q?
P-Channel Small Signal MOSFET, -50 V, -0.07 A, 23 Ohm, 3-Pin SMCP, Pb-Free, Tape and Reel; Manufacturer: On Semiconductor; PartNumber: 5LP01S-TL-E; Channel Polarity: P Channel; Ciss Typ (pF): 7.4; Configuration: Single; Coss Typ (pF): 4.2; Crss Typ (pF): 1.3; ID Max (A): 0.07; PD Max (W): 0.15; V(BR)DSS Min (V): 50; VGS Max (V): 10; VGS(th) Max (V): 1.4; PackageReference: SMCP-3; PackageDescription: 3-Pin Small Outline Transistor, Body 1.6 x 0.8 mm, Pitch 0.5 mm; Supplier 1: Digi-Key; Supplier Part Number 1: 5LP01S-TL-E-ND; Supplier 2: Mouser; Supplier Part Number 2: 863-5LP01S-TL-E; Package Type: SC-75 / SMCP; Packing: Tape and Reel; RoHS: Pb-Free; Mounting Technology: Surface Mount; ComponentLink1Description: Manufacturer URL; ComponentLink1URL: http://www.onsemi.com/; ComponentLink2Description: Datasheet; ComponentLink2URL: http://www.onsemi.com/pub_link/Collateral/EN6666-D.PDF; ComponentLink3Description: Package Specification; ComponentLink3URL: http://www.onsemi.com/pub_link/Collateral/3LN01S-D.PDF
footprint ONSC-SMCP-3_V (SOT23, 3-Leads, Body 1.6x0.8mm, Pitch 0.5mm)
pins: 1 G, 2 S, 3 D

## 5LP01SS-TL-E
designator Q?
P-Channel Small Signal MOSFET, -50 V, -0.07 A, 23 Ohm, 3-Pin SSFP, Pb-Free, Tape and Reel; Manufacturer: On Semiconductor; PartNumber: 5LP01SS-TL-E; Channel Polarity: P Channel; Ciss Typ (pF): 7.4; Configuration: Single; Coss Typ (pF): 4.2; Crss Typ (pF): 1.3; ID Max (A): 0.07; PD Max (W): 0.15; V(BR)DSS Min (V): 50; VGS Max (V): 10; VGS(th) Max (V): 1.4; PackageReference: SSFP-3; PackageDescription: 3-Pin Small Outline Transistor, Body 1.4 x 0.8 mm, Pitch 0.45 mm; Supplier 1: Digi-Key; Supplier Part Number 1: 5LP01SS-TL-E-ND; Supplier 2: Mouser; Supplier Part Number 2: 863-5LP01SS-TL-E; Package Type: SOT-623 / SSFP; Packing: Tape and Reel; RoHS: Pb-Free; Mounting Technology: Surface Mount; ComponentLink1Description: Manufacturer URL; ComponentLink1URL: http://www.onsemi.com/; ComponentLink2Description: Datasheet; ComponentLink2URL: http://www.onsemi.com/pub_link/Collateral/EN6622-D.PDF; ComponentLink3Description: Package Specification; ComponentLink3URL: http://www.onsemi.com/pub_link/Collateral/55GN01FA.PDF
footprint ONSC-SSFP-3_V (SOT23, 3-Leads, Body 1.4x0.8mm, Pitch 0.45mm)
pins: 1 G, 2 S, 3 D

## 5LP01SS-TL-H
designator Q?
P-Channel Small Signal MOSFET, -50 V, -0.07 A, 23 Ohm, 3-Pin SSFP, Pb-Free, Tape and Reel; Manufacturer: On Semiconductor; PartNumber: 5LP01SS-TL-H; Channel Polarity: P Channel; Ciss Typ (pF): 7.4; Configuration: Single; Coss Typ (pF): 4.2; Crss Typ (pF): 1.3; ID Max (A): 0.07; PD Max (W): 0.15; V(BR)DSS Min (V): 50; VGS Max (V): 10; VGS(th) Max (V): 1.4; PackageReference: SSFP-3; PackageDescription: 3-Pin Small Outline Transistor, Body 1.4 x 0.8 mm, Pitch 0.45 mm; Supplier 1: Digi-Key; Supplier Part Number 1: 5LP01SS-TL-H-ND; Supplier 2: Mouser; Supplier Part Number 2: 863-5LP01SS-TL-H; Package Type: SOT-623 / SSFP; Packing: Tape and Reel; RoHS: Pb-Free; Mounting Technology: Surface Mount; ComponentLink1Description: Manufacturer URL; ComponentLink1URL: http://www.onsemi.com/; ComponentLink2Description: Datasheet; ComponentLink2URL: http://www.onsemi.com/pub_link/Collateral/EN6622-D.PDF; ComponentLink3Description: Package Specification; ComponentLink3URL: http://www.onsemi.com/pub_link/Collateral/55GN01FA.PDF
footprint ONSC-SSFP-3_V (SOT23, 3-Leads, Body 1.4x0.8mm, Pitch 0.45mm)
pins: 1 G, 2 S, 3 D

## 12A02CH-TL-E
designator Q?
Bipolar Transistor, -12 V, -1 A, Low VCE(sat) PNP Single, 3-Pin CPH, Pb-Free, Tape and Reel; Manufacturer: On Semiconductor; PartNumber: 12A02CH-TL-E; PackageReference: CPH-3; PackageDescription: 3-Pin Small Outline Transistor, Body 2.9 x 1.6 mm, Pitch 0.95 mm; Supplier 1: Digi-Key; Supplier Part Number 1: 12A02CH-TL-E-ND; Supplier 2: Mouser; Supplier Part Number 2: 863-12A02CH-TL-E; IC Continuous (A): -1; Packing: Tape and Reel; Polarity: PNP; RoHS: TRUE; Mounting Technology: Surface Mount; ComponentLink1Description: Manufacturer URL; ComponentLink1URL: http://www.onsemi.com/; ComponentLink2Description: Datasheet; ComponentLink2URL: http://www.onsemi.com/pub_link/Collateral/EN7482-D.PDF; ComponentLink3Description: Package Specification; ComponentLink3URL: http://www.onsemi.com/pub_link/Collateral/50A02CH-D.PDF
footprint ONSC-CPH-3_V (SOT23, 3-Leads, Body 2.9x1.6mm, Pitch 0.95mm)
pins: 1 B, 2 E, 3 C

## 15C01M-TL-E
designator Q?
Bipolar Transistor, 15 V, 0.7 A, Low VCE(sat), NPN Single, 3-Pin MCP, Pb-Free, Tape and Reel; Manufacturer: On Semiconductor; PartNumber: 15C01M-TL-E; IC Continuous (A): 0.7; PackageReference: MCP-3; PackageDescription: 3-Pin Small Outline Transistor, Body 2 x 1.25 mm, Pitch 0.65 mm; Supplier 1: Digi-Key; Supplier Part Number 1: 15C01M-TL-E-ND; Supplier 2: Newark; Supplier Part Number 2: 65T2291; Supplier 3: Mouser; Supplier Part Number 3: 863-15C01M-TL-E; Packing: Tape and Reel; Polarity: NPN; RoHS: TRUE; Mounting Technology: Surface Mount; ComponentLink1Description: Manufacturer URL; ComponentLink1URL: http://www.onsemi.com/; ComponentLink2Description: Datasheet; ComponentLink2URL: http://www.onsemi.com/pub_link/Collateral/EN7505-D.PDF; ComponentLink3Description: Package Specification; ComponentLink3URL: http://www.onsemi.com/pub_link/Collateral/3LP01M-D.PDF
footprint ONSC-MCP-3_V (SOT23, 3-Leads, Body 2.2x1.35mm, Pitch 0.65mm)
pins: 1 B, 2 E, 3 C

## 15C01SS-TL-E
designator Q?
Bipolar Transistor, 15 V, 0.6 A, Low VCE(sat), NPN Single, 3-Pin SSFP, Pb-Free, Tape and Reel; Manufacturer: On Semiconductor; PartNumber: 15C01SS-TL-E; IC Continuous (A): 0.6; PackageReference: SSFP-3; PackageDescription: 3-Pin Small Outline Transistor, Body 1.4 x 0.8 mm, Pitch 0.45 mm; Supplier 1: Digi-Key; Supplier Part Number 1: 15C01SS-TL-E-ND; Supplier 2: Mouser; Supplier Part Number 2: 863-15C01SS-TL-E; Packing: Tape and Reel; Polarity: NPN; RoHS: TRUE; Mounting Technology: Surface Mount; ComponentLink1Description: Manufacturer URL; ComponentLink1URL: http://www.onsemi.com/; ComponentLink2Description: Datasheet; ComponentLink2URL: http://www.onsemi.com/pub_link/Collateral/ENN7508-D.PDF; ComponentLink3Description: Package Specification; ComponentLink3URL: http://www.onsemi.com/pub_link/Collateral/55GN01FA.PDF
footprint ONSC-SSFP-3_V (SOT23, 3-Leads, Body 1.4x0.8mm, Pitch 0.45mm)
pins: 1 B, 2 E, 3 C

## 30A02CH-TL-E
designator Q?
Bipolar Transistor, -30 V, -0.7 A, Low VCE(sat), PNP Single, 3-Pin CPH, Pb-Free, Tape and Reel; Manufacturer: On Semiconductor; PartNumber: 30A02CH-TL-E; PackageReference: CPH-3; PackageDescription: 3-Pin Small Outline Transistor, Body 2.9 x 1.6 mm, Pitch 0.95 mm; Supplier 1: Digi-Key; Supplier Part Number 1: 30A02CH-TL-E-ND; Supplier 2: Mouser; Supplier Part Number 2: 863-30A02CH-TL-E; IC Continuous (A): -0.7; Packing: Tape and Reel; Polarity: PNP; RoHS: TRUE; Mounting Technology: Surface Mount; ComponentLink1Description: Manufacturer URL; ComponentLink1URL: http://www.onsemi.com/; ComponentLink2Description: Datasheet; ComponentLink2URL: http://www.onsemi.com/pub_link/Collateral/30A02CH-D.PDF; ComponentLink3Description: Package Specification; ComponentLink3URL: http://www.onsemi.com/pub_link/Collateral/50A02CH-D.PDF
footprint ONSC-CPH-3_V (SOT23, 3-Leads, Body 2.9x1.6mm, Pitch 0.95mm)
pins: 1 B, 2 E, 3 C

## 30C02CH-TL-E
designator Q?
Bipolar Transistor, 30 V, 0.7 A, Low VCE(sat), NPN Single, 3-Pin CPH, Pb-Free, Tape and Reel; Manufacturer: On Semiconductor; PartNumber: 30C02CH-TL-E; IC Continuous (A): 0.7; PackageReference: CPH-3; PackageDescription: 3-Pin Small Outline Transistor, Body 2.9 x 1.6 mm, Pitch 0.95 mm; Supplier 1: Digi-Key; Supplier Part Number 1: 30C02CH-TL-E-ND; Supplier 2: Mouser; Supplier Part Number 2: 863-30C02CH-TL-E; Packing: Tape and Reel; Polarity: NPN; RoHS: TRUE; Mounting Technology: Surface Mount; ComponentLink1Description: Manufacturer URL; ComponentLink1URL: http://www.onsemi.com/; ComponentLink2Description: Datasheet; ComponentLink2URL: http://www.onsemi.com/pub_link/Collateral/30C02CH-D.PDF; ComponentLink3Description: Package Specification; ComponentLink3URL: http://www.onsemi.com/pub_link/Collateral/50A02CH-D.PDF
footprint ONSC-CPH-3_V (SOT23, 3-Leads, Body 2.9x1.6mm, Pitch 0.95mm)
pins: 1 B, 2 E, 3 C

## 50A02MH-TL-E
designator Q?
Bipolar Transistor, -50 V, -0.5 A, Low VCE(sat), PNP Single, 3-Pin MCPH, Pb-Free, Tape and Reel; Manufacturer: On Semiconductor; PartNumber: 50A02MH-TL-E; PackageReference: MCPH-3; PackageDescription: 3-Pin Small Outline Transistor, Body 2 x 1.6 mm, Pitch 0.65 mm; Supplier 1: Digi-Key; Supplier Part Number 1: 869-1118-2-ND; Supplier 2: Digi-Key; Supplier Part Number 2: 869-1118-1-ND; Supplier 3: Digi-Key; Supplier Part Number 3: 869-1118-6-ND; Supplier 4: Mouser; Supplier Part Number 4: 863-50A02MH-TL-E; IC Continuous (A): -0.5; Packing: Tape and Reel; Polarity: PNP; RoHS: TRUE; Mounting Technology: Surface Mount; ComponentLink1Description: Manufacturer URL; ComponentLink1URL: http://www.onsemi.com/; ComponentLink2Description: Datasheet; ComponentLink2URL: http://www.onsemi.com/pub_link/Collateral/50A02MH-D.PDF; ComponentLink3Description: Package Specification; ComponentLink3URL: http://www.onsemi.com/pub_link/Collateral/EN7354-D.PDF
footprint ONSC-MCPH-3_V (SOT23, 3-Leads, Body 2x1.6mm, Pitch 0.65mm)
pins: 1 B, 2 E, 3 C

## 50C02CH-TL-E
designator Q?
Bipolar Transistor, 50 V, 0.5 A, Low VCE(sat), NPN Single, 3-Pin CPH, Pb-Free, Tape and Reel; Manufacturer: On Semiconductor; PartNumber: 50C02CH-TL-E; IC Continuous (A): 0.5; PackageReference: CPH-3; PackageDescription: 3-Pin Small Outline Transistor, Body 2.9 x 1.6 mm, Pitch 0.95 mm; Supplier 1: Digi-Key; Supplier Part Number 1: 50C02CH-TL-E-ND; Supplier 2: Mouser; Supplier Part Number 2: 863-50C02CH-TL-E; Packing: Tape and Reel; Polarity: NPN; RoHS: TRUE; Mounting Technology: Surface Mount; ComponentLink1Description: Manufacturer URL; ComponentLink1URL: http://www.onsemi.com/; ComponentLink2Description: Datasheet; ComponentLink2URL: http://www.onsemi.com/pub_link/Collateral/50C02CH-D.PDF; ComponentLink3Description: Package Specification; ComponentLink3URL: http://www.onsemi.com/pub_link/Collateral/50A02CH-D.PDF
footprint ONSC-CPH-3_V (SOT23, 3-Leads, Body 2.9x1.6mm, Pitch 0.95mm)
pins: 1 B, 2 E, 3 C

## 50C02MH-TL-E
designator Q?
Bipolar Transistor, 50 V, 0.5 A, Low VCE(sat), NPN Single, 3-Pin MCPH, Pb-Free, Tape and Reel; Manufacturer: On Semiconductor; PartNumber: 50C02MH-TL-E; IC Continuous (A): 0.5; PackageReference: MCPH-3; PackageDescription: 3-Pin Small Outline Transistor, Body 2 x 1.6 mm, Pitch 0.65 mm; Supplier 1: Digi-Key; Supplier Part Number 1: 50C02MH-TL-E-ND; Supplier 2: Mouser; Supplier Part Number 2: 863-50C02MH-TL-E; Packing: Tape and Reel; Polarity: NPN; RoHS: TRUE; Mounting Technology: Surface Mount; ComponentLink1Description: Manufacturer URL; ComponentLink1URL: http://www.onsemi.com/; ComponentLink2Description: Datasheet; ComponentLink2URL: http://www.onsemi.com/pub_link/Collateral/50C02MH-D.PDF; ComponentLink3Description: Package Specification; ComponentLink3URL: http://www.onsemi.com/pub_link/Collateral/EN7354-D.PDF
footprint ONSC-MCPH-3_V (SOT23, 3-Leads, Body 2x1.6mm, Pitch 0.65mm)
pins: 1 B, 2 E, 3 C

## 55GN01CA-TB-E
designator Q?
RF Transistor, 10 V, 70 mA, fT=5.5 GHz, NPN Single, 3-Pin CP, Pb-Free, Tape and Reel; Manufacturer: On Semiconductor; PartNumber: 55GN01CA-TB-E; IC Continuous (A): 0.07; PackageReference: CP-3-318AN_A; PackageDescription: 3-Pin Small Outline Transistor, Body 2.9 x 1.5 mm, Pitch 0.95 mm; Supplier 1: Digi-Key; Supplier Part Number 1: 55GN01CA-TB-E-ND; Supplier 2: Mouser; Supplier Part Number 2: 863-55GN01CA-TB-E; Packing: Tape and Reel; Polarity: NPN; RoHS: TRUE; Mounting Technology: Surface Mount; ComponentLink1Description: Manufacturer URL; ComponentLink1URL: http://www.onsemi.com/; ComponentLink2Description: Datasheet; ComponentLink2URL: http://www.onsemi.com/pub_link/Collateral/55GN01CA-D.PDF; ComponentLink3Description: Package Specification; ComponentLink3URL: http://www.onsemi.com/pub_link/Collateral/EN6619-D.PDF
footprint ONSC-CP-3-318AN_A_V (SOT23, 3-Leads, Body 2.9x1.5mm, Pitch 0.95mm)
pins: 1 B, 2 E, 3 C

## ATP101-TL-H
designator Q?
P-Channel Power MOSFET, -30 V, -25 A, 30 mOhm, Single, 3-Pin ATPAK, Pb-Free, Tape and Reel; Manufacturer: On Semiconductor; PartNumber: ATP101-TL-H; Channel Polarity: P Channel; Ciss Typ (pF): 875; Coss Typ (pF): 220; Crss Typ (pF): 155; ID Max (A): 25; PD Max (W): 30; VGS Max (V): 20; VGS(th) Max (V): 2.6; PackageVersion: Rev. O, 02/2012; PackageReference: ATPAK-3-369AM; PackageDescription: 3-Pin Flange Mount, Body 6.5 x 7.3 mm, Pitch 2.3 mm; Supplier 1: Digi-Key; Supplier Part Number 1: ATP101-TL-H-ND; Supplier 2: Mouser; Supplier Part Number 2: 863-ATP101-TL-H; Configuration: Single; Package Type: DPAK (Single Gauge) / ATPAK; Packing: Tape and Reel; RoHS: Pb-Free; V(BR)DSS Min (V): 30; Mounting Technology: Surface Mount; ComponentLink1Description: Manufacturer URL; ComponentLink1URL: http://www.onsemi.com/; ComponentLink2Description: Datasheet; ComponentLink2URL: http://www.onsemi.com/pub_link/Collateral/ENA1646-D.PDF; ComponentLink3Description: Package Specification; ComponentLink3URL: http://www.onsemi.com/pub_link/Collateral/369AM.PDF
footprint ONSC-ATPAK-3-369AM_V (DPAK, 3-Leads, Body 7.3x6.5mm, Pitch 2.3mm)
pins: 1 G, 3 S, 4 D

## ATP102-TL-H
designator Q?
P-Channel Power MOSFET, -30 V, -40 A, 18.5 mOhm, Single, 3-Pin ATPAK, Pb-Free, Tape and Reel; Manufacturer: On Semiconductor; PartNumber: ATP102-TL-H; Channel Polarity: P Channel; Ciss Typ (pF): 1490; Coss Typ (pF): 360; Crss Typ (pF): 270; ID Max (A): 40; V(BR)DSS Min (V): 30; VGS Max (V): 20; VGS(th) Max (V): 2.6; PackageVersion: Rev. O, 02/2012; PackageReference: ATPAK-3-369AM; PackageDescription: 3-Pin Flange Mount, Body 6.5 x 7.3 mm, Pitch 2.3 mm; Supplier 1: Digi-Key; Supplier Part Number 1: 869-1073-2-ND; Supplier 2: Digi-Key; Supplier Part Number 2: 869-1073-1-ND; Supplier 3: Digi-Key; Supplier Part Number 3: 869-1073-6-ND; Supplier 4: Mouser; Supplier Part Number 4: 863-ATP102-TL-H; Configuration: Single; Package Type: DPAK (Single Gauge) / ATPAK; Packing: Tape and Reel; PD Max (W): 40; RoHS: Pb-Free; Mounting Technology: Surface Mount; ComponentLink1Description: Manufacturer URL; ComponentLink1URL: http://www.onsemi.com/; ComponentLink2Description: Datasheet; ComponentLink2URL: http://www.onsemi.com/pub_link/Collateral/ATP102-D.PDF; ComponentLink3Description: Package Specification; ComponentLink3URL: http://www.onsemi.com/pub_link/Collateral/369AM.PDF
footprint ONSC-ATPAK-3-369AM_V (DPAK, 3-Leads, Body 7.3x6.5mm, Pitch 2.3mm)
pins: 1 G, 3 S, 4 D

## ATP103-TL-H
designator Q?
P-Channel Power MOSFET, -30 V, -55 A, 13 mOhm, Single, 3-Pin ATPAK, Pb-Free, Tape and Reel; Manufacturer: On Semiconductor; PartNumber: ATP103-TL-H; Channel Polarity: P Channel; Ciss Typ (pF): 2430; Coss Typ (pF): 555; Crss Typ (pF): 395; ID Max (A): 55; PD Max (W): 50; V(BR)DSS Min (V): 30; VGS Max (V): 20; VGS(th) Max (V): 2.6; PackageVersion: Rev. O, 02/2012; PackageReference: ATPAK-3-369AM; PackageDescription: 3-Pin Flange Mount, Body 6.5 x 7.3 mm, Pitch 2.3 mm; Supplier 1: Digi-Key; Supplier Part Number 1: ATP103-TL-H-ND; Supplier 2: Mouser; Supplier Part Number 2: 863-ATP103-TL-H; Configuration: Single; Package Type: DPAK (Single Gauge) / ATPAK; Packing: Tape and Reel; RoHS: Pb-Free; Mounting Technology: Surface Mount; ComponentLink1Description: Manufacturer URL; ComponentLink1URL: http://www.onsemi.com/; ComponentLink2Description: Datasheet; ComponentLink2URL: http://www.onsemi.com/pub_link/Collateral/ENA1623-D.PDF; ComponentLink3Description: Package Specification; ComponentLink3URL: http://www.onsemi.com/pub_link/Collateral/369AM.PDF
footprint ONSC-ATPAK-3-369AM_V (DPAK, 3-Leads, Body 7.3x6.5mm, Pitch 2.3mm)
pins: 1 G, 3 S, 4 D

## ATP104-TL-H
designator Q?
P-Channel Power MOSFET, -30 V, -75 A, 8.4 mOhm, Single, 3-Pin ATPAK, Pb-Free, Tape and Reel; Manufacturer: On Semiconductor; PartNumber: ATP104-TL-H; Channel Polarity: P Channel; Ciss Typ (pF): 3950; Coss Typ (pF): 880; Crss Typ (pF): 610; ID Max (A): 75; PD Max (W): 60; V(BR)DSS Min (V): 30; VGS Max (V): 20; VGS(th) Max (V): 2.6; PackageVersion: Rev. O, 02/2012; PackageReference: ATPAK-3-369AM; PackageDescription: 3-Pin Flange Mount, Body 6.5 x 7.3 mm, Pitch 2.3 mm; Supplier 1: Digi-Key; Supplier Part Number 1: 869-1074-2-ND; Supplier 2: Digi-Key; Supplier Part Number 2: 869-1074-1-ND; Supplier 3: Digi-Key; Supplier Part Number 3: 869-1074-6-ND; Supplier 4: Newark; Supplier Part Number 4: 52T7522; Supplier 5: Mouser; Supplier Part Number 5: 863-ATP104-TL-H; Configuration: Single; Package Type: DPAK (Single Gauge) / ATPAK; Packing: Tape and Reel; RoHS: Pb-Free; Mounting Technology: Surface Mount; ComponentLink1Description: Manufacturer URL; ComponentLink1URL: http://www.onsemi.com/; ComponentLink2Description: Datasheet; ComponentLink2URL: http://www.onsemi.com/pub_link/Collateral/ATP104-D.PDF; ComponentLink3Description: Package Specification; ComponentLink3URL: http://www.onsemi.com/pub_link/Collateral/369AM.PDF
footprint ONSC-ATPAK-3-369AM_V (DPAK, 3-Leads, Body 7.3x6.5mm, Pitch 2.3mm)
pins: 1 G, 3 S, 4 D